# EAGLE library part LM555_?_* (library HyTechDevicesTemp)
LM555 Datasheet <https://www.ti.com/lit/ds/symlink/lm555.pdf>
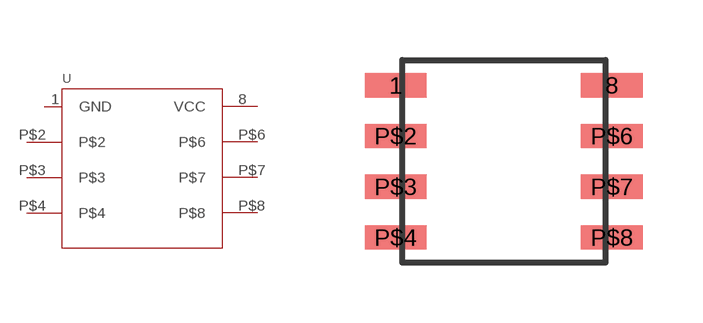
[diagram p0: symbol with the pads of 8-SOIC; footprint 8-SOIC]

Designator prefix U

## LM555_6-SOIC_ (DKPN: LM555CMX/NOPBCT-ND), LM555_6-SOIC_CMX/NOPB  [8-SOIC]
1  GND  pwr
8  VCC
P$2  P$2
P$3  P$3
P$4  P$4
P$6  P$6
P$7  P$7
P$8  P$8

## Footprint 8-SOIC (pad centres in mm)
LM555 Datasheet <https://www.ti.com/lit/ds/symlink/lm555.pdf>
smd 1.549 x 0.61: 1 -2.705,1.905; 8 2.705,1.905; P$2 -2.705,0.635; P$3 -2.705,-0.635; P$4 -2.705,-1.905; P$6 2.705,0.635; P$7 2.705,-0.635; P$8 2.705,-1.905